# Altium integrated library Texas Instruments Power Management PWM Controller.IntLib: 1227 symbols (part 26 of 49)
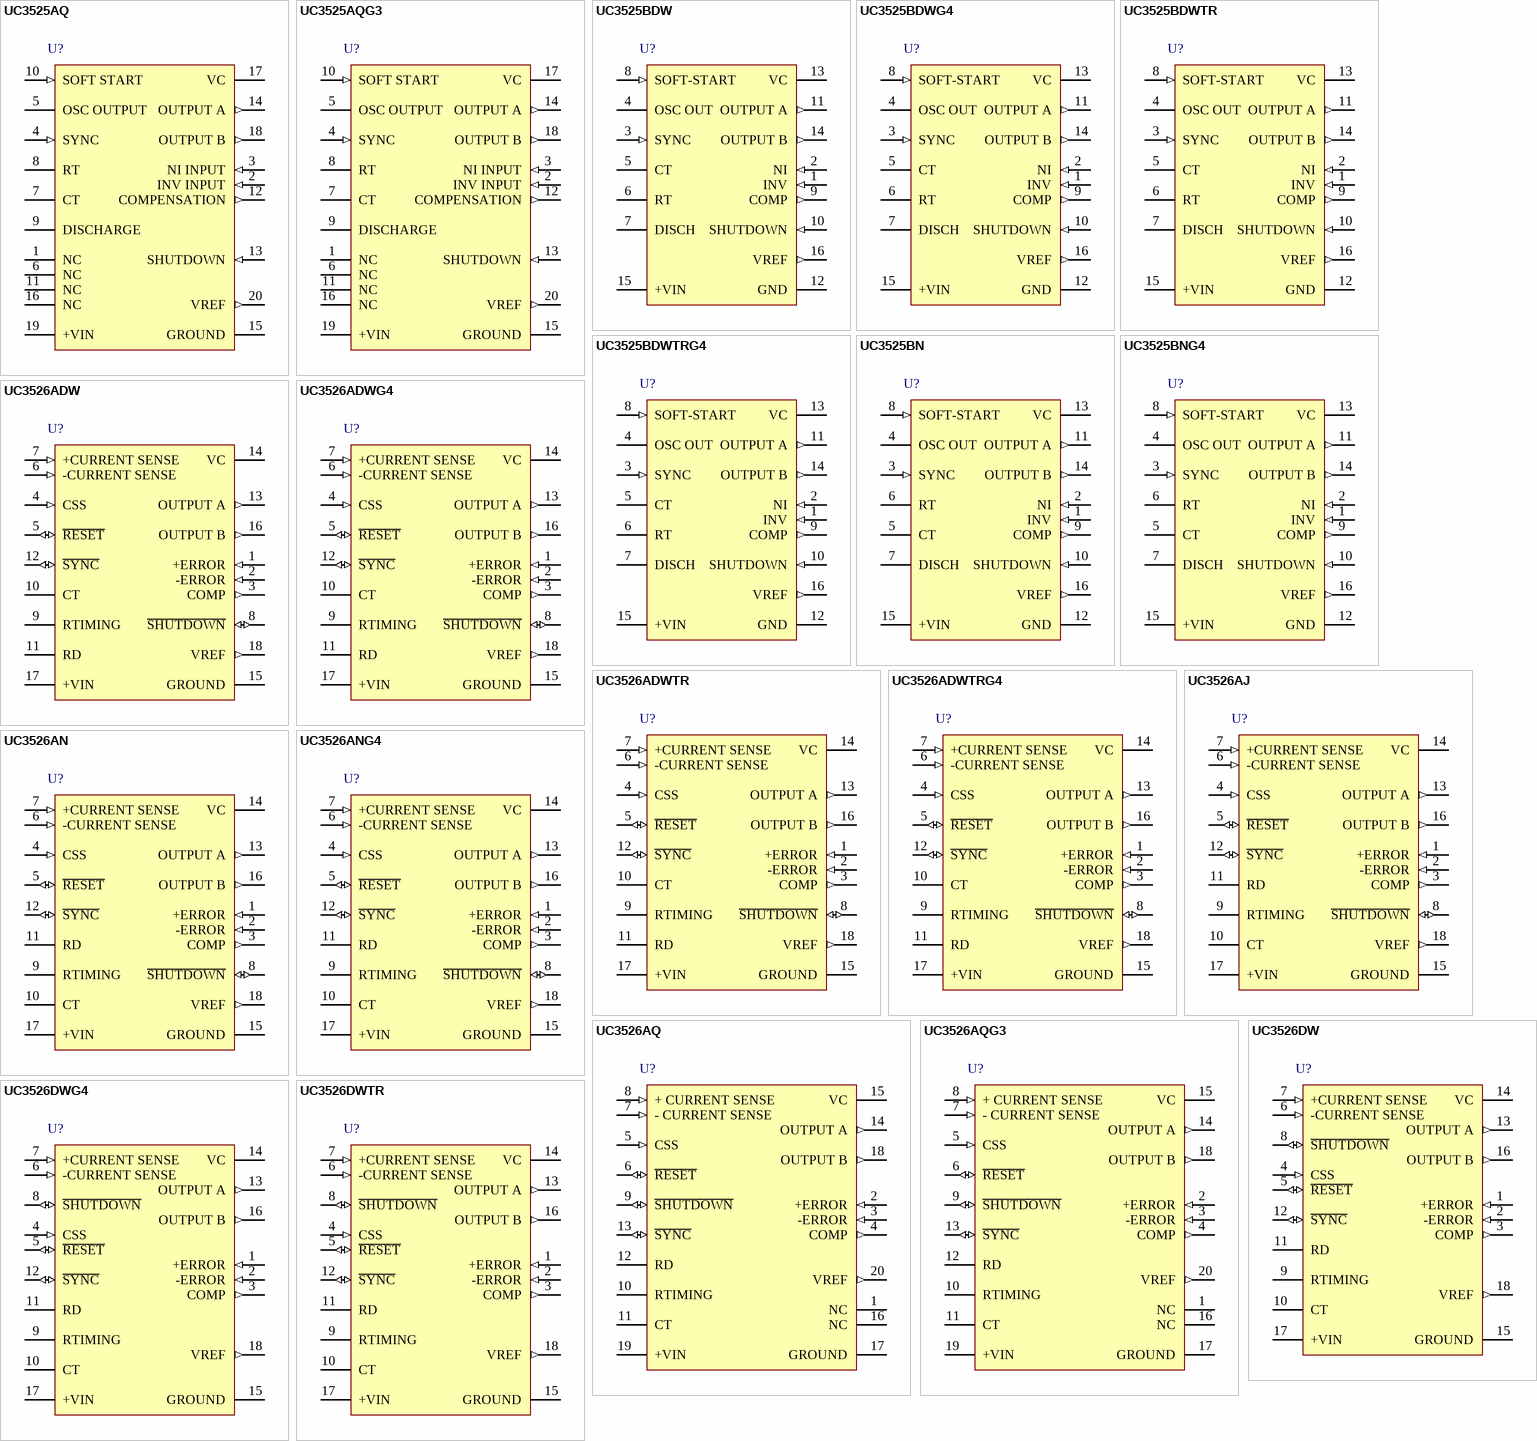
[diagram p68: symbols UC3525AQ to UC3526DWTR]

## UC3526DWTR
designator U?
Regulating Pulse Width Modulator with Voltage Control, 50 % Duty Cycle, 0 to +70 degC, 18-pin SOIC (DW), Green (RoHS & no Sb/Br); PartNumber: UC3526DWTR; Manufacturer: Texas Instruments; Duty Cycle(Max)(%): 50; Frequency(Max)(kHz): 450; Rating: Catalog; Regulated Outputs(#): 2; SubFamily: PWM Controller; Topology: Boost, Flyback, Forward, Full-Bridge, Half-Bridge, Push-Pull; DatasheetVersion: SLUS185; PackageVersion: revG, Jan-2011; PackageReference: DW18; PackageDescription: 18-Pin Plastic Small Outline Integrated Circuit, 11.6 x 7.5 mm, Pitch 1.27 mm Pitch; Supplier 1: Digi-Key; Supplier Part Number 1: UC3526DWTR-ND; Supplier 2: Newark; Supplier Part Number 2: 77C3138; Supplier 3: Mouser; Supplier Part Number 3: 595-UC3526DWTR; Control Method: Voltage; Eco-Plan: Green (RoHS & no Sb/Br); UVLO Thresholds On/Off(V): 7/6.8; Mounting Technology: Surface Mount; Code_JEDEC: MS-013-AB; ComponentLink1Description: Datasheet; ComponentLink1URL: http://www.ti.com/general/docs/lit/getliterature.tsp?genericPartNumber=UC3526&fileType=pdf
footprint DW18_N (SOIC, 18-Leads, Body 11.6x7.5mm, Pitch 1.27mm, IPC Medium Density)
footprint DW18_L (SOIC, 18-Leads, Body 11.6x7.5mm, Pitch 1.27mm, IPC High Density)
footprint DW18_M (SOIC, 18-Leads, Body 11.6x7.5mm, Pitch 1.27mm, IPC Low Density)
pins: 1 +ERROR (in), 2 -ERROR (in), 3 COMP (out), 4 CSS (in), 5 ~{RESET} (io), 6 -CURRENT SENSE (in), 7 +CURRENT SENSE (in), 8 ~{SHUTDOWN} (io), 9 RTIMING, 10 CT, 11 RD, 12 ~{SYNC} (io), 13 OUTPUT A (out), 14 VC (power), 15 GROUND (power), 16 OUTPUT B (out), 17 +VIN (power), 18 VREF (out)

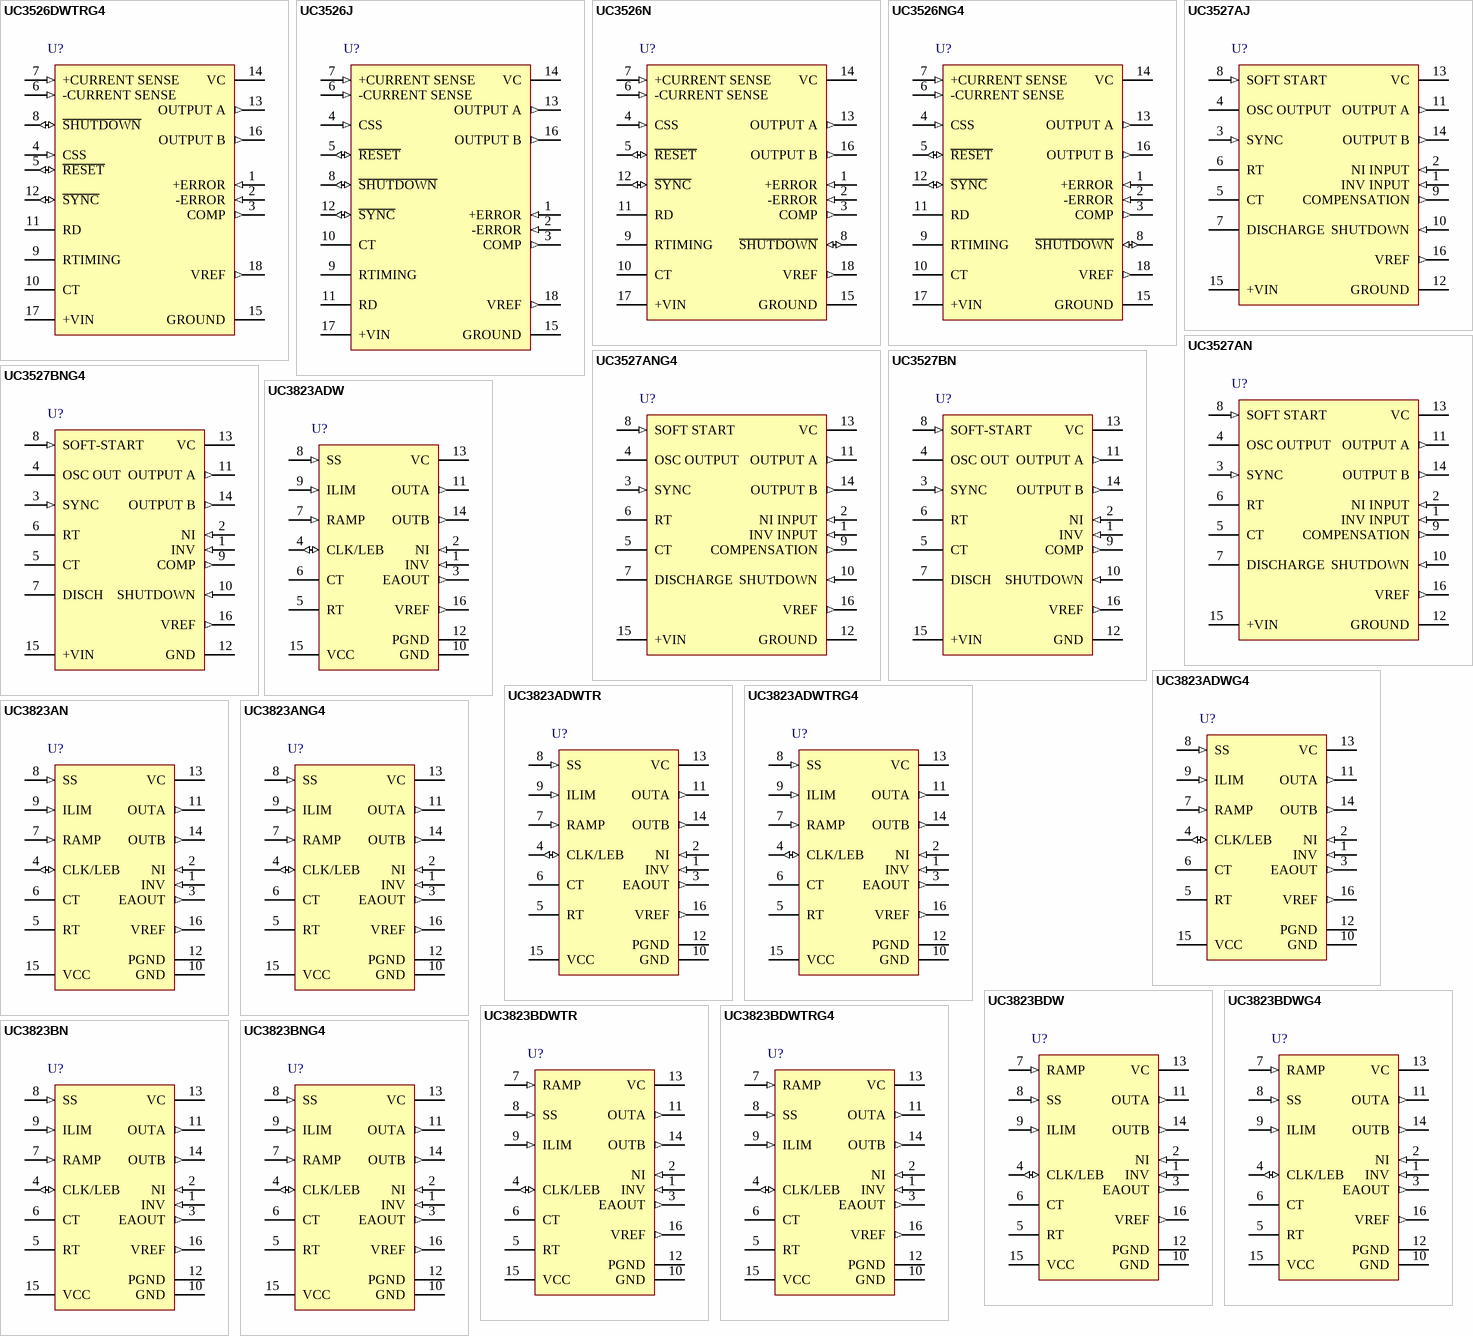
[diagram p28: symbols UC3526DWTRG4 to UC3823BNG4]

## UC3526DWTRG4
designator U?
Regulating Pulse Width Modulator with Voltage Control, 50 % Duty Cycle, 0 to +70 degC, 18-pin SOIC (DW), Green (RoHS & no Sb/Br); PartNumber: UC3526DWTRG4; Manufacturer: Texas Instruments; Duty Cycle(Max)(%): 50; Frequency(Max)(kHz): 450; Rating: Catalog; Regulated Outputs(#): 2; SubFamily: PWM Controller; Topology: Boost, Flyback, Forward, Full-Bridge, Half-Bridge, Push-Pull; DatasheetVersion: SLUS185; PackageVersion: revG, Jan-2011; PackageReference: DW18; PackageDescription: 18-Pin Plastic Small Outline Integrated Circuit, 11.6 x 7.5 mm, Pitch 1.27 mm Pitch; Supplier 1: Digi-Key; Supplier Part Number 1: UC3526DWTRG4-ND; Supplier 2: Newark; Supplier Part Number 2: 63K6714; Supplier 3: Mouser; Supplier Part Number 3: 595-UC3526DWTRG4; Control Method: Voltage; Eco-Plan: Green (RoHS & no Sb/Br); UVLO Thresholds On/Off(V): 7/6.8; Mounting Technology: Surface Mount; Code_JEDEC: MS-013-AB; ComponentLink1Description: Datasheet; ComponentLink1URL: http://www.ti.com/general/docs/lit/getliterature.tsp?genericPartNumber=UC3526&fileType=pdf
footprint DW18_N (SOIC, 18-Leads, Body 11.6x7.5mm, Pitch 1.27mm, IPC Medium Density)
footprint DW18_L (SOIC, 18-Leads, Body 11.6x7.5mm, Pitch 1.27mm, IPC High Density)
footprint DW18_M (SOIC, 18-Leads, Body 11.6x7.5mm, Pitch 1.27mm, IPC Low Density)
pins: 1 +ERROR (in), 2 -ERROR (in), 3 COMP (out), 4 CSS (in), 5 ~{RESET} (io), 6 -CURRENT SENSE (in), 7 +CURRENT SENSE (in), 8 ~{SHUTDOWN} (io), 9 RTIMING, 10 CT, 11 RD, 12 ~{SYNC} (io), 13 OUTPUT A (out), 14 VC (power), 15 GROUND (power), 16 OUTPUT B (out), 17 +VIN (power), 18 VREF (out)

## UC3526J
designator U?
Regulating Pulse Width Modulator with Voltage Control, 50 % Duty Cycle, 0 to +70 degC, 18-pin CDIP (J); PartNumber: UC3526J; Manufacturer: Texas Instruments; Duty Cycle(Max)(%): 50; Eco-Plan: TBD; Frequency(Max)(kHz): 450; Rating: Military; Regulated Outputs(#): 2; SubFamily: PWM Controller; Topology: Boost, Buck, Flyback, Forward, Full-Bridge, Half-Bridge, Push-Pull; DatasheetVersion: SLUS187; PackageVersion: revF, Mar-2003; PackageReference: J18; PackageDescription: 18-Pin, Ceramic Dual In-Line Package, Row Spacing 7.62 mm, Pitch 2.54 mm; Control Method: Voltage; UVLO Thresholds On/Off(V): 7/6.8; Mounting Technology: Through Hole; ComponentLink1Description: Datasheet; ComponentLink1URL: http://www.ti.com/general/docs/lit/getliterature.tsp?genericPartNumber=UC3526M&fileType=pdf
footprint J18 (DIP, 18-Leads, Row Spacing 7.62mm, Pitch 2.54mm, Body 24.1x6.7mm)
pins: 1 +ERROR (in), 2 -ERROR (in), 3 COMP (out), 4 CSS (in), 5 ~{RESET} (io), 6 -CURRENT SENSE (in), 7 +CURRENT SENSE (in), 8 ~{SHUTDOWN} (io), 9 RTIMING, 10 CT, 11 RD, 12 ~{SYNC} (io), 13 OUTPUT A (out), 14 VC (power), 15 GROUND (power), 16 OUTPUT B (out), 17 +VIN (power), 18 VREF (out)

## UC3526N
designator U?
Regulating Pulse Width Modulator with Voltage Control, 50 % Duty Cycle, 0 to +70 degC, 18-pin PDIP (N), Green (RoHS & no Sb/Br); PartNumber: UC3526N; Manufacturer: Texas Instruments; Duty Cycle(Max)(%): 50; Frequency(Max)(kHz): 450; Rating: Catalog; Regulated Outputs(#): 2; SubFamily: PWM Controller; Topology: Boost, Flyback, Forward, Full-Bridge, Half-Bridge, Push-Pull; DatasheetVersion: SLUS185; PackageVersion: revE, Dec-2002; PackageReference: N18; PackageDescription: 18-Pin Plastic Dual-In-Line Package, Row Spacing 7.62 mm, Pitch 2.54 mm; Supplier 1: Digi-Key; Supplier Part Number 1: 296-11222-5-ND; Supplier 2: Newark; Supplier Part Number 2: 77C3139; Supplier 3: Mouser; Supplier Part Number 3: 595-UC3526N; Control Method: Voltage; Eco-Plan: Green (RoHS & no Sb/Br); UVLO Thresholds On/Off(V): 7/6.8; Mounting Technology: Through Hole; Code_JEDEC: MS-001-AC*; ComponentLink1Description: Datasheet; ComponentLink1URL: http://www.ti.com/general/docs/lit/getliterature.tsp?genericPartNumber=UC3526&fileType=pdf
footprint N18 (DIP, 18-Leads, Row Spacing 7.62mm, Pitch 2.54mm, Body 22.5x6.4mm)
pins: 1 +ERROR (in), 2 -ERROR (in), 3 COMP (out), 4 CSS (in), 5 ~{RESET} (io), 6 -CURRENT SENSE (in), 7 +CURRENT SENSE (in), 8 ~{SHUTDOWN} (io), 9 RTIMING, 10 CT, 11 RD, 12 ~{SYNC} (io), 13 OUTPUT A (out), 14 VC (power), 15 GROUND (power), 16 OUTPUT B (out), 17 +VIN (power), 18 VREF (out)

## UC3526NG4
designator U?
Regulating Pulse Width Modulator with Voltage Control, 50 % Duty Cycle, 0 to +70 degC, 18-pin PDIP (N), Green (RoHS & no Sb/Br); PartNumber: UC3526NG4; Manufacturer: Texas Instruments; Duty Cycle(Max)(%): 50; Frequency(Max)(kHz): 450; Rating: Catalog; Regulated Outputs(#): 2; SubFamily: PWM Controller; Topology: Boost, Flyback, Forward, Full-Bridge, Half-Bridge, Push-Pull; DatasheetVersion: SLUS185; PackageVersion: revE, Dec-2002; PackageReference: N18; PackageDescription: 18-Pin Plastic Dual-In-Line Package, Row Spacing 7.62 mm, Pitch 2.54 mm; Supplier 1: Digi-Key; Supplier Part Number 1: UC3526NG4-ND; Supplier 2: Farnell; Supplier Part Number 2: 1207378; Supplier 3: Newark; Supplier Part Number 3: 24M8887; Supplier 4: Newark; Supplier Part Number 4: 54K2303; Supplier 5: Mouser; Supplier Part Number 5: 595-UC3526NG4; Control Method: Voltage; Eco-Plan: Green (RoHS & no Sb/Br); UVLO Thresholds On/Off(V): 7/6.8; Mounting Technology: Through Hole; Code_JEDEC: MS-001-AC*; ComponentLink1Description: Datasheet; ComponentLink1URL: http://www.ti.com/general/docs/lit/getliterature.tsp?genericPartNumber=UC3526&fileType=pdf
footprint N18 (DIP, 18-Leads, Row Spacing 7.62mm, Pitch 2.54mm, Body 22.5x6.4mm)
pins: 1 +ERROR (in), 2 -ERROR (in), 3 COMP (out), 4 CSS (in), 5 ~{RESET} (io), 6 -CURRENT SENSE (in), 7 +CURRENT SENSE (in), 8 ~{SHUTDOWN} (io), 9 RTIMING, 10 CT, 11 RD, 12 ~{SYNC} (io), 13 OUTPUT A (out), 14 VC (power), 15 GROUND (power), 16 OUTPUT B (out), 17 +VIN (power), 18 VREF (out)

## UC3527AJ
designator U?
Regulating Pulse Width Modulator with Voltage Control, 50 % Duty Cycle, 0 to +70 degC, 16-pin CDIP (J); PartNumber: UC3527AJ; Manufacturer: Texas Instruments; Duty Cycle(Max)(%): 50; Eco-Plan: TBD; Frequency(Max)(kHz): 450; Rating: Military; Regulated Outputs(#): 2; SubFamily: PWM Controller; Topology: Boost, Flyback, Forward, Full-Bridge, Half-Bridge, Push-Pull; DatasheetVersion: SLUS191C; PackageVersion: revF, Mar-2003; PackageReference: J16; PackageDescription: 16-Pin, Ceramic Dual In-Line Package, Row Spacing 7.62 mm, Pitch 2.54 mm; Control Method: Voltage; UVLO Thresholds On/Off(V): 7/6.8; Mounting Technology: Through Hole; ComponentLink1Description: Datasheet; ComponentLink1URL: http://www.ti.com/general/docs/lit/getliterature.tsp?genericPartNumber=UC3527AM&fileType=pdf
footprint J16 (DIP, 16-Leads, Row Spacing 7.62mm, Pitch 2.54mm, Body 21.3x6.9mm)
pins: 1 INV INPUT (in), 2 NI INPUT (in), 3 SYNC (in), 4 OSC OUTPUT, 5 CT, 6 RT, 7 DISCHARGE (oc), 8 SOFT START (in), 9 COMPENSATION (out), 10 SHUTDOWN (in), 11 OUTPUT A (out), 12 GROUND (power), 13 VC (power), 14 OUTPUT B (out), 15 +VIN (power), 16 VREF (out)

## UC3527AN
designator U?
Regulating Pulse Width Modulator with Voltage Control, 50 % Duty Cycle, 0 to +70 degC, 16-pin PDIP (N), Green (RoHS & no Sb/Br); PartNumber: UC3527AN; Manufacturer: Texas Instruments; Duty Cycle(Max)(%): 50; Frequency(Max)(kHz): 450; Rating: Catalog; Regulated Outputs(#): 2; SubFamily: PWM Controller; Topology: Boost, Flyback, Forward, Full-Bridge, Half-Bridge, Push-Pull; DatasheetVersion: SLUS191C; PackageVersion: revE, Dec-2002; PackageReference: N16; PackageDescription: 16-Pin Plastic Dual-In-Line Package, Row Spacing 7.62 mm, Pitch 2.54 mm; Supplier 1: Digi-Key; Supplier Part Number 1: 296-11223-5-ND; Supplier 2: Newark; Supplier Part Number 2: 77C3140; Supplier 3: Mouser; Supplier Part Number 3: 595-UC3527AN; Control Method: Voltage; Eco-Plan: Green (RoHS & no Sb/Br); UVLO Thresholds On/Off(V): 7/6.8; Mounting Technology: Through Hole; Code_JEDEC: MS-001*; ComponentLink1Description: Datasheet; ComponentLink1URL: http://www.ti.com/general/docs/lit/getliterature.tsp?genericPartNumber=UC3527A&fileType=pdf
footprint N16 (DIP, 16-Leads, Row Spacing 7.62mm, Pitch 2.54mm, Body 19.3x6.4mm)
pins: 1 INV INPUT (in), 2 NI INPUT (in), 3 SYNC (in), 4 OSC OUTPUT, 5 CT, 6 RT, 7 DISCHARGE (oc), 8 SOFT START (in), 9 COMPENSATION (out), 10 SHUTDOWN (in), 11 OUTPUT A (out), 12 GROUND (power), 13 VC (power), 14 OUTPUT B (out), 15 +VIN (power), 16 VREF (out)

## UC3527ANG4
designator U?
Regulating Pulse Width Modulator with Voltage Control, 50 % Duty Cycle, 0 to +70 degC, 16-pin PDIP (N), Green (RoHS & no Sb/Br); PartNumber: UC3527ANG4; Manufacturer: Texas Instruments; Duty Cycle(Max)(%): 50; Frequency(Max)(kHz): 450; Rating: Catalog; Regulated Outputs(#): 2; SubFamily: PWM Controller; Topology: Boost, Flyback, Forward, Full-Bridge, Half-Bridge, Push-Pull; DatasheetVersion: SLUS191C; PackageVersion: revE, Dec-2002; PackageReference: N16; PackageDescription: 16-Pin Plastic Dual-In-Line Package, Row Spacing 7.62 mm, Pitch 2.54 mm; Supplier 1: Digi-Key; Supplier Part Number 1: UC3527ANG4-ND; Supplier 2: Newark; Supplier Part Number 2: 58K7117; Supplier 3: Mouser; Supplier Part Number 3: 595-UC3527ANG4; Control Method: Voltage; Eco-Plan: Green (RoHS & no Sb/Br); UVLO Thresholds On/Off(V): 7/6.8; Mounting Technology: Through Hole; Code_JEDEC: MS-001*; ComponentLink1Description: Datasheet; ComponentLink1URL: http://www.ti.com/general/docs/lit/getliterature.tsp?genericPartNumber=UC3527A&fileType=pdf
footprint N16 (DIP, 16-Leads, Row Spacing 7.62mm, Pitch 2.54mm, Body 19.3x6.4mm)
pins: 1 INV INPUT (in), 2 NI INPUT (in), 3 SYNC (in), 4 OSC OUTPUT, 5 CT, 6 RT, 7 DISCHARGE (oc), 8 SOFT START (in), 9 COMPENSATION (out), 10 SHUTDOWN (in), 11 OUTPUT A (out), 12 GROUND (power), 13 VC (power), 14 OUTPUT B (out), 15 +VIN (power), 16 VREF (out)

## UC3527BN
designator U?
Regulating Pulse Width Modulator with Voltage Control, 50 % Duty Cycle, 0 to +70 degC, 16-pin PDIP (N), Green (RoHS & no Sb/Br); PartNumber: UC3527BN; Manufacturer: Texas Instruments; Duty Cycle(Max)(%): 50; Frequency(Max)(kHz): 450; Rating: Catalog; Regulated Outputs(#): 2; SubFamily: PWM Controller; Topology: Boost, Flyback, Forward, Full-Bridge, Half-Bridge, Push-Pull; DatasheetVersion: SLUS376; PackageVersion: revE, Dec-2002; PackageReference: N16; PackageDescription: 16-Pin Plastic Dual-In-Line Package, Row Spacing 7.62 mm, Pitch 2.54 mm; Supplier 1: Digi-Key; Supplier Part Number 1: 296-2504-5-ND; Supplier 2: Newark; Supplier Part Number 2: 77C3141; Supplier 3: Mouser; Supplier Part Number 3: 595-UC3527BN; Control Method: Voltage; Eco-Plan: Green (RoHS & no Sb/Br); UVLO Thresholds On/Off(V): 7/6.8; Mounting Technology: Through Hole; Code_JEDEC: MS-001*; ComponentLink1Description: Datasheet; ComponentLink1URL: http://www.ti.com/general/docs/lit/getliterature.tsp?genericPartNumber=UC3527B&fileType=pdf
footprint N16 (DIP, 16-Leads, Row Spacing 7.62mm, Pitch 2.54mm, Body 19.3x6.4mm)
pins: 1 INV (in), 2 NI (in), 3 SYNC (in), 4 OSC OUT, 5 CT, 6 RT, 7 DISCH (oc), 8 SOFT-START (in), 9 COMP (out), 10 SHUTDOWN (in), 11 OUTPUT A (out), 12 GND (power), 13 VC (power), 14 OUTPUT B (out), 15 +VIN (power), 16 VREF (out)

## UC3527BNG4
designator U?
Regulating Pulse Width Modulator with Voltage Control, 50 % Duty Cycle, 0 to +70 degC, 16-pin PDIP (N), Green (RoHS & no Sb/Br); PartNumber: UC3527BNG4; Manufacturer: Texas Instruments; Duty Cycle(Max)(%): 50; Frequency(Max)(kHz): 450; Rating: Catalog; Regulated Outputs(#): 2; SubFamily: PWM Controller; Topology: Boost, Flyback, Forward, Full-Bridge, Half-Bridge, Push-Pull; DatasheetVersion: SLUS376; PackageVersion: revE, Dec-2002; PackageReference: N16; PackageDescription: 16-Pin Plastic Dual-In-Line Package, Row Spacing 7.62 mm, Pitch 2.54 mm; Supplier 1: Digi-Key; Supplier Part Number 1: UC3527BNG4-ND; Supplier 2: Newark; Supplier Part Number 2: 54K2304; Supplier 3: Mouser; Supplier Part Number 3: 595-UC3527BNG4; Control Method: Voltage; Eco-Plan: Green (RoHS & no Sb/Br); UVLO Thresholds On/Off(V): 7/6.8; Mounting Technology: Through Hole; Code_JEDEC: MS-001*; ComponentLink1Description: Datasheet; ComponentLink1URL: http://www.ti.com/general/docs/lit/getliterature.tsp?genericPartNumber=UC3527B&fileType=pdf
footprint N16 (DIP, 16-Leads, Row Spacing 7.62mm, Pitch 2.54mm, Body 19.3x6.4mm)
pins: 1 INV (in), 2 NI (in), 3 SYNC (in), 4 OSC OUT, 5 CT, 6 RT, 7 DISCH (oc), 8 SOFT-START (in), 9 COMP (out), 10 SHUTDOWN (in), 11 OUTPUT A (out), 12 GND (power), 13 VC (power), 14 OUTPUT B (out), 15 +VIN (power), 16 VREF (out)

## UC3823ADW
designator U?
High Speed PWM Controller with Current, Voltage Control, 100 % Duty Cycle, 0 to +70 degC, 16-pin SOIC (DW), Green (RoHS & no Sb/Br); PartNumber: UC3823ADW; Manufacturer: Texas Instruments; Duty Cycle(Max)(%): 100; Frequency(Max)(kHz): 1000; Rating: Catalog; Regulated Outputs(#): 1; Topology: Boost, Buck, Flyback, Forward; UVLO Thresholds On/Off(V): 16/10; DatasheetVersion: SLUS334E; PackageVersion: revG, Jan-2011; PackageReference: DW16; PackageDescription: 16-Pin Small Outline Integrated Circuit, 10.3 x 7.5 mm, Pitch 1.27 mm Pitch; Supplier 1: Digi-Key; Supplier Part Number 1: 296-2515-5-ND; Supplier 2: Farnell; Supplier Part Number 2: 1461259; Supplier 3: Newark; Supplier Part Number 3: 77C3232; Supplier 4: Mouser; Supplier Part Number 4: 595-UC3823ADW; Control Method: Current, Voltage; Eco-Plan: Green (RoHS & no Sb/Br); SubFamily: PWM Controller; Mounting Technology: Surface Mount; Code_JEDEC: MS-013-AA; ComponentLink1Description: Datasheet; ComponentLink1URL: http://www.ti.com/general/docs/lit/getliterature.tsp?genericPartNumber=UC3823A&fileType=pdf
footprint DW16_N (SOIC, 16-Leads, Body 10.3x7.5mm, Pitch 1.27mm, IPC Medium Density)
footprint DW16_L (SOIC, 16-Leads, Body 10.3x7.5mm, Pitch 1.27mm, IPC High Density)
footprint DW16_M (SOIC, 16-Leads, Body 10.3x7.5mm, Pitch 1.27mm, IPC Low Density)
pins: 1 INV (in) "Inverting input to the error amplifier", 2 NI (in) "Non-inverting input to the error amplifier", 3 EAOUT (out) "Output of the error amplifier for compensation", 4 CLK/LEB (io) "Output of the internal oscillator", 5 RT "Timing resistor connection pin for oscillator frequency programming", 6 CT "Timing capacitor connection pin for oscillator frequency programming. The timing capacitor should be connected to the device ground using minimal trace length.", 7 RAMP (in) "Non-inverting input to the PWM comparator with 1.25-V internal input offset. In voltage mode operation, this serves as the input voltage feed-forward function by using the CT ramp. In peak current mode operation, this serves (See Datasheet)", 8 SS (in) "Soft-start input pin which also doubles as the maximum duty cycle clamp.", 9 ILIM (in) "Input to the current limit comparator", 10 GND (power) "Analog ground return pin", 11 OUTA (out) "High current totem pole output A of the on-chip drive stage.", 12 PGND (power) "Ground return pin for the output driver stage", 13 VC (power) "Power supply pin for the output stage. This pin should be bypassed with a 0.1-uF monolithic ceramic low ESL capacitor with minimal trace lengths.", 14 OUTB (out) "High current totem pole output B of the on-chip drive stage.", 15 VCC (power) "Power supply pin for the device. This pin should be bypassed with a 0.1-uF monolithic ceramic low ESL capacitor with minimal trace lengths", 16 VREF (out) "5.1-V reference. For stability, the reference should be bypassed with a 0.1-uF monolithic ceramic low ESL capacitor and minimal trace length to the ground plane."

## UC3823ADWG4
designator U?
High Speed PWM Controller with Current, Voltage Control, 100 % Duty Cycle, 0 to +70 degC, 16-pin SOIC (DW), Green (RoHS & no Sb/Br); PartNumber: UC3823ADWG4; Manufacturer: Texas Instruments; Duty Cycle(Max)(%): 100; Frequency(Max)(kHz): 1000; Rating: Catalog; Regulated Outputs(#): 1; Topology: Boost, Buck, Flyback, Forward; UVLO Thresholds On/Off(V): 16/10; DatasheetVersion: SLUS334E; PackageVersion: revG, Jan-2011; PackageReference: DW16; PackageDescription: 16-Pin Small Outline Integrated Circuit, 10.3 x 7.5 mm, Pitch 1.27 mm Pitch; Supplier 1: Digi-Key; Supplier Part Number 1: UC3823ADWG4-ND; Supplier 2: Newark; Supplier Part Number 2: 63K6728; Supplier 3: Mouser; Supplier Part Number 3: 595-UC3823ADWG4; Control Method: Current, Voltage; Eco-Plan: Green (RoHS & no Sb/Br); SubFamily: PWM Controller; Mounting Technology: Surface Mount; Code_JEDEC: MS-013-AA; ComponentLink1Description: Datasheet; ComponentLink1URL: http://www.ti.com/general/docs/lit/getliterature.tsp?genericPartNumber=UC3823A&fileType=pdf
footprint DW16_N (SOIC, 16-Leads, Body 10.3x7.5mm, Pitch 1.27mm, IPC Medium Density)
footprint DW16_L (SOIC, 16-Leads, Body 10.3x7.5mm, Pitch 1.27mm, IPC High Density)
footprint DW16_M (SOIC, 16-Leads, Body 10.3x7.5mm, Pitch 1.27mm, IPC Low Density)
pins: 1 INV (in) "Inverting input to the error amplifier", 2 NI (in) "Non-inverting input to the error amplifier", 3 EAOUT (out) "Output of the error amplifier for compensation", 4 CLK/LEB (io) "Output of the internal oscillator", 5 RT "Timing resistor connection pin for oscillator frequency programming", 6 CT "Timing capacitor connection pin for oscillator frequency programming. The timing capacitor should be connected to the device ground using minimal trace length.", 7 RAMP (in) "Non-inverting input to the PWM comparator with 1.25-V internal input offset. In voltage mode operation, this serves as the input voltage feed-forward function by using the CT ramp. In peak current mode operation, this serves (See Datasheet)", 8 SS (in) "Soft-start input pin which also doubles as the maximum duty cycle clamp.", 9 ILIM (in) "Input to the current limit comparator", 10 GND (power) "Analog ground return pin", 11 OUTA (out) "High current totem pole output A of the on-chip drive stage.", 12 PGND (power) "Ground return pin for the output driver stage", 13 VC (power) "Power supply pin for the output stage. This pin should be bypassed with a 0.1-uF monolithic ceramic low ESL capacitor with minimal trace lengths.", 14 OUTB (out) "High current totem pole output B of the on-chip drive stage.", 15 VCC (power) "Power supply pin for the device. This pin should be bypassed with a 0.1-uF monolithic ceramic low ESL capacitor with minimal trace lengths", 16 VREF (out) "5.1-V reference. For stability, the reference should be bypassed with a 0.1-uF monolithic ceramic low ESL capacitor and minimal trace length to the ground plane."

## UC3823ADWTR
designator U?
High Speed PWM Controller with Current, Voltage Control, 100 % Duty Cycle, 0 to +70 degC, 16-pin SOIC (DW), Green (RoHS & no Sb/Br); PartNumber: UC3823ADWTR; Manufacturer: Texas Instruments; Duty Cycle(Max)(%): 100; Frequency(Max)(kHz): 1000; Rating: Catalog; Regulated Outputs(#): 1; Topology: Boost, Buck, Flyback, Forward; UVLO Thresholds On/Off(V): 16/10; DatasheetVersion: SLUS334E; PackageVersion: revG, Jan-2011; PackageReference: DW16; PackageDescription: 16-Pin Small Outline Integrated Circuit, 10.3 x 7.5 mm, Pitch 1.27 mm Pitch; Supplier 1: Digi-Key; Supplier Part Number 1: UC3823ADWTR-ND; Supplier 2: Newark; Supplier Part Number 2: 77C3233; Supplier 3: Mouser; Supplier Part Number 3: 595-UC3823ADWTR; Control Method: Current, Voltage; Eco-Plan: Green (RoHS & no Sb/Br); SubFamily: PWM Controller; Mounting Technology: Surface Mount; Code_JEDEC: MS-013-AA; ComponentLink1Description: Datasheet; ComponentLink1URL: http://www.ti.com/general/docs/lit/getliterature.tsp?genericPartNumber=UC3823A&fileType=pdf
footprint DW16_N (SOIC, 16-Leads, Body 10.3x7.5mm, Pitch 1.27mm, IPC Medium Density)
footprint DW16_L (SOIC, 16-Leads, Body 10.3x7.5mm, Pitch 1.27mm, IPC High Density)
footprint DW16_M (SOIC, 16-Leads, Body 10.3x7.5mm, Pitch 1.27mm, IPC Low Density)
pins: 1 INV (in) "Inverting input to the error amplifier", 2 NI (in) "Non-inverting input to the error amplifier", 3 EAOUT (out) "Output of the error amplifier for compensation", 4 CLK/LEB (io) "Output of the internal oscillator", 5 RT "Timing resistor connection pin for oscillator frequency programming", 6 CT "Timing capacitor connection pin for oscillator frequency programming. The timing capacitor should be connected to the device ground using minimal trace length.", 7 RAMP (in) "Non-inverting input to the PWM comparator with 1.25-V internal input offset. In voltage mode operation, this serves as the input voltage feed-forward function by using the CT ramp. In peak current mode operation, this serves (See Datasheet)", 8 SS (in) "Soft-start input pin which also doubles as the maximum duty cycle clamp.", 9 ILIM (in) "Input to the current limit comparator", 10 GND (power) "Analog ground return pin", 11 OUTA (out) "High current totem pole output A of the on-chip drive stage.", 12 PGND (power) "Ground return pin for the output driver stage", 13 VC (power) "Power supply pin for the output stage. This pin should be bypassed with a 0.1-uF monolithic ceramic low ESL capacitor with minimal trace lengths.", 14 OUTB (out) "High current totem pole output B of the on-chip drive stage.", 15 VCC (power) "Power supply pin for the device. This pin should be bypassed with a 0.1-uF monolithic ceramic low ESL capacitor with minimal trace lengths", 16 VREF (out) "5.1-V reference. For stability, the reference should be bypassed with a 0.1-uF monolithic ceramic low ESL capacitor and minimal trace length to the ground plane."

## UC3823ADWTRG4
designator U?
High Speed PWM Controller with Current, Voltage Control, 100 % Duty Cycle, 0 to +70 degC, 16-pin SOIC (DW), Green (RoHS & no Sb/Br); PartNumber: UC3823ADWTRG4; Manufacturer: Texas Instruments; Duty Cycle(Max)(%): 100; Frequency(Max)(kHz): 1000; Rating: Catalog; Regulated Outputs(#): 1; Topology: Boost, Buck, Flyback, Forward; UVLO Thresholds On/Off(V): 16/10; DatasheetVersion: SLUS334E; PackageVersion: revG, Jan-2011; PackageReference: DW16; PackageDescription: 16-Pin Small Outline Integrated Circuit, 10.3 x 7.5 mm, Pitch 1.27 mm Pitch; Supplier 1: Digi-Key; Supplier Part Number 1: UC3823ADWTRG4-ND; Supplier 2: Newark; Supplier Part Number 2: 63K6729; Supplier 3: Mouser; Supplier Part Number 3: 595-UC3823ADWTRG4; Control Method: Current, Voltage; Eco-Plan: Green (RoHS & no Sb/Br); SubFamily: PWM Controller; Mounting Technology: Surface Mount; Code_JEDEC: MS-013-AA; ComponentLink1Description: Datasheet; ComponentLink1URL: http://www.ti.com/general/docs/lit/getliterature.tsp?genericPartNumber=UC3823A&fileType=pdf
footprint DW16_N (SOIC, 16-Leads, Body 10.3x7.5mm, Pitch 1.27mm, IPC Medium Density)
footprint DW16_L (SOIC, 16-Leads, Body 10.3x7.5mm, Pitch 1.27mm, IPC High Density)
footprint DW16_M (SOIC, 16-Leads, Body 10.3x7.5mm, Pitch 1.27mm, IPC Low Density)
pins: 1 INV (in) "Inverting input to the error amplifier", 2 NI (in) "Non-inverting input to the error amplifier", 3 EAOUT (out) "Output of the error amplifier for compensation", 4 CLK/LEB (io) "Output of the internal oscillator", 5 RT "Timing resistor connection pin for oscillator frequency programming", 6 CT "Timing capacitor connection pin for oscillator frequency programming. The timing capacitor should be connected to the device ground using minimal trace length.", 7 RAMP (in) "Non-inverting input to the PWM comparator with 1.25-V internal input offset. In voltage mode operation, this serves as the input voltage feed-forward function by using the CT ramp. In peak current mode operation, this serves (See Datasheet)", 8 SS (in) "Soft-start input pin which also doubles as the maximum duty cycle clamp.", 9 ILIM (in) "Input to the current limit comparator", 10 GND (power) "Analog ground return pin", 11 OUTA (out) "High current totem pole output A of the on-chip drive stage.", 12 PGND (power) "Ground return pin for the output driver stage", 13 VC (power) "Power supply pin for the output stage. This pin should be bypassed with a 0.1-uF monolithic ceramic low ESL capacitor with minimal trace lengths.", 14 OUTB (out) "High current totem pole output B of the on-chip drive stage.", 15 VCC (power) "Power supply pin for the device. This pin should be bypassed with a 0.1-uF monolithic ceramic low ESL capacitor with minimal trace lengths", 16 VREF (out) "5.1-V reference. For stability, the reference should be bypassed with a 0.1-uF monolithic ceramic low ESL capacitor and minimal trace length to the ground plane."

## UC3823AN
designator U?
High Speed PWM Controller with Current, Voltage Control, 100 % Duty Cycle, 0 to +70 degC, 16-pin PDIP (N), Green (RoHS & no Sb/Br); PartNumber: UC3823AN; Manufacturer: Texas Instruments; Duty Cycle(Max)(%): 100; Frequency(Max)(kHz): 1000; Rating: Catalog; Regulated Outputs(#): 1; Topology: Boost, Buck, Flyback, Forward; UVLO Thresholds On/Off(V): 16/10; DatasheetVersion: SLUS334E; PackageVersion: revE, Dec-2002; PackageReference: N16; PackageDescription: 16-Pin Plastic Dual-In-Line Package, Row Spacing 7.62 mm, Pitch 2.54 mm; Supplier 1: Digi-Key; Supplier Part Number 1: 296-11261-5-ND; Supplier 2: Newark; Supplier Part Number 2: 77C3234; Supplier 3: Mouser; Supplier Part Number 3: 595-UC3823AN; Control Method: Current, Voltage; Eco-Plan: Green (RoHS & no Sb/Br); SubFamily: PWM Controller; Mounting Technology: Through Hole; Code_JEDEC: MS-001*; ComponentLink1Description: Datasheet; ComponentLink1URL: http://www.ti.com/general/docs/lit/getliterature.tsp?genericPartNumber=UC3823A&fileType=pdf
footprint N16 (DIP, 16-Leads, Row Spacing 7.62mm, Pitch 2.54mm, Body 19.3x6.4mm)
pins: 1 INV (in) "Inverting input to the error amplifier", 2 NI (in) "Non-inverting input to the error amplifier", 3 EAOUT (out) "Output of the error amplifier for compensation", 4 CLK/LEB (io) "Output of the internal oscillator", 5 RT "Timing resistor connection pin for oscillator frequency programming", 6 CT "Timing capacitor connection pin for oscillator frequency programming. The timing capacitor should be connected to the device ground using minimal trace length.", 7 RAMP (in) "Non-inverting input to the PWM comparator with 1.25-V internal input offset. In voltage mode operation, this serves as the input voltage feed-forward function by using the CT ramp. In peak current mode operation, this serves (See Datasheet)", 8 SS (in) "Soft-start input pin which also doubles as the maximum duty cycle clamp.", 9 ILIM (in) "Input to the current limit comparator", 10 GND (power) "Analog ground return pin", 11 OUTA (out) "High current totem pole output A of the on-chip drive stage.", 12 PGND (power) "Ground return pin for the output driver stage", 13 VC (power) "Power supply pin for the output stage. This pin should be bypassed with a 0.1-uF monolithic ceramic low ESL capacitor with minimal trace lengths.", 14 OUTB (out) "High current totem pole output B of the on-chip drive stage.", 15 VCC (power) "Power supply pin for the device. This pin should be bypassed with a 0.1-uF monolithic ceramic low ESL capacitor with minimal trace lengths", 16 VREF (out) "5.1-V reference. For stability, the reference should be bypassed with a 0.1-uF monolithic ceramic low ESL capacitor and minimal trace length to the ground plane."

## UC3823ANG4
designator U?
High Speed PWM Controller with Current, Voltage Control, 100 % Duty Cycle, 0 to +70 degC, 16-pin PDIP (N), Green (RoHS & no Sb/Br); PartNumber: UC3823ANG4; Manufacturer: Texas Instruments; Duty Cycle(Max)(%): 100; Frequency(Max)(kHz): 1000; Rating: Catalog; Regulated Outputs(#): 1; Topology: Boost, Buck, Flyback, Forward; UVLO Thresholds On/Off(V): 16/10; DatasheetVersion: SLUS334E; PackageVersion: revE, Dec-2002; PackageReference: N16; PackageDescription: 16-Pin Plastic Dual-In-Line Package, Row Spacing 7.62 mm, Pitch 2.54 mm; Supplier 1: Digi-Key; Supplier Part Number 1: UC3823ANG4-ND; Supplier 2: Farnell; Supplier Part Number 2: 1207385; Supplier 3: Newark; Supplier Part Number 3: 24M8894; Supplier 4: Newark; Supplier Part Number 4: 54K2323; Supplier 5: Mouser; Supplier Part Number 5: 595-UC3823ANG4; Control Method: Current,Voltage; Eco-Plan: Green (RoHS & no Sb/Br); SubFamily: PWM Controller; Mounting Technology: Through Hole; Code_JEDEC: MS-001*; ComponentLink1Description: Datasheet; ComponentLink1URL: http://www.ti.com/general/docs/lit/getliterature.tsp?genericPartNumber=UC3823A&fileType=pdf
footprint N16 (DIP, 16-Leads, Row Spacing 7.62mm, Pitch 2.54mm, Body 19.3x6.4mm)
pins: 1 INV (in) "Inverting input to the error amplifier", 2 NI (in) "Non-inverting input to the error amplifier", 3 EAOUT (out) "Output of the error amplifier for compensation", 4 CLK/LEB (io) "Output of the internal oscillator", 5 RT "Timing resistor connection pin for oscillator frequency programming", 6 CT "Timing capacitor connection pin for oscillator frequency programming. The timing capacitor should be connected to the device ground using minimal trace length.", 7 RAMP (in) "Non-inverting input to the PWM comparator with 1.25-V internal input offset. In voltage mode operation, this serves as the input voltage feed-forward function by using the CT ramp. In peak current mode operation, this serves (See Datasheet)", 8 SS (in) "Soft-start input pin which also doubles as the maximum duty cycle clamp.", 9 ILIM (in) "Input to the current limit comparator", 10 GND (power) "Analog ground return pin", 11 OUTA (out) "High current totem pole output A of the on-chip drive stage.", 12 PGND (power) "Ground return pin for the output driver stage", 13 VC (power) "Power supply pin for the output stage. This pin should be bypassed with a 0.1-uF monolithic ceramic low ESL capacitor with minimal trace lengths.", 14 OUTB (out) "High current totem pole output B of the on-chip drive stage.", 15 VCC (power) "Power supply pin for the device. This pin should be bypassed with a 0.1-uF monolithic ceramic low ESL capacitor with minimal trace lengths", 16 VREF (out) "5.1-V reference. For stability, the reference should be bypassed with a 0.1-uF monolithic ceramic low ESL capacitor and minimal trace length to the ground plane."

## UC3823BDW
designator U?
High Speed PWM Controller with Current, Voltage Control, 100 % Duty Cycle, 0 to +70 degC, 16-pin SOIC (DW), Green (RoHS & no Sb/Br); PartNumber: UC3823BDW; Manufacturer: Texas Instruments; Duty Cycle(Max)(%): 100; Frequency(Max)(kHz): 1000; Rating: Catalog; Regulated Outputs(#): 1; Topology: Boost, Buck, Flyback, Forward; UVLO Thresholds On/Off(V): 9.2/8.4; DatasheetVersion: SLUS334E; PackageVersion: revG, Jan-2011; PackageReference: DW16; PackageDescription: 16-Pin Small Outline Integrated Circuit, 10.3 x 7.5 mm, Pitch 1.27 mm Pitch; Supplier 1: Digi-Key; Supplier Part Number 1: 296-2516-5-ND; Supplier 2: Newark; Supplier Part Number 2: 77C3237; Supplier 3: Mouser; Supplier Part Number 3: 595-UC3823BDW; Control Method: Current, Voltage; Eco-Plan: Green (RoHS & no Sb/Br); SubFamily: PWM Controller; Mounting Technology: Surface Mount; Code_JEDEC: MS-013-AA; ComponentLink1Description: Datasheet; ComponentLink1URL: http://www.ti.com/general/docs/lit/getliterature.tsp?genericPartNumber=UC3823B&fileType=pdf
footprint DW16_N (SOIC, 16-Leads, Body 10.3x7.5mm, Pitch 1.27mm, IPC Medium Density)
footprint DW16_L (SOIC, 16-Leads, Body 10.3x7.5mm, Pitch 1.27mm, IPC High Density)
footprint DW16_M (SOIC, 16-Leads, Body 10.3x7.5mm, Pitch 1.27mm, IPC Low Density)
pins: 1 INV (in) "Inverting input to the error amplifier", 2 NI (in) "Non-inverting input to the error amplifier", 3 EAOUT (out) "Output of the error amplifier for compensation", 4 CLK/LEB (io) "Output of the internal oscillator", 5 RT "Timing resistor connection pin for oscillator frequency programming", 6 CT "Timing capacitor connection pin for oscillator frequency programming. The timing capacitor should be connected to the device ground using minimal trace length.", 7 RAMP (in) "Non-inverting input to the PWM comparator with 1.25-V internal input offset. In voltage mode operation, this serves as the input voltage feed-forward function by using the CT ramp. In peak current mode operation, this serves (See Datasheet)", 8 SS (in) "Soft-start input pin which also doubles as the maximum duty cycle clamp.", 9 ILIM (in) "Input to the current limit comparator", 10 GND (power) "Analog ground return pin", 11 OUTA (out) "High current totem pole output A of the on-chip drive stage.", 12 PGND (power) "Ground return pin for the output driver stage", 13 VC (power) "Power supply pin for the output stage. This pin should be bypassed with a 0.1-uF monolithic ceramic low ESL capacitor with minimal trace lengths.", 14 OUTB (out) "High current totem pole output B of the on-chip drive stage.", 15 VCC (power) "Power supply pin for the device. This pin should be bypassed with a 0.1-uF monolithic ceramic low ESL capacitor with minimal trace lengths", 16 VREF (out) "5.1-V reference. For stability, the reference should be bypassed with a 0.1-uF monolithic ceramic low ESL capacitor and minimal trace length to the ground plane."

## UC3823BDWG4
designator U?
High Speed PWM Controller with Current, Voltage Control, 100 % Duty Cycle, 0 to +70 degC, 16-pin SOIC (DW), Green (RoHS & no Sb/Br); PartNumber: UC3823BDWG4; Manufacturer: Texas Instruments; Duty Cycle(Max)(%): 100; Frequency(Max)(kHz): 1000; Rating: Catalog; Regulated Outputs(#): 1; Topology: Boost, Buck, Flyback, Forward; UVLO Thresholds On/Off(V): 9.2/8.4; DatasheetVersion: SLUS334E; PackageVersion: revG, Jan-2011; PackageReference: DW16; PackageDescription: 16-Pin Small Outline Integrated Circuit, 10.3 x 7.5 mm, Pitch 1.27 mm Pitch; Supplier 1: Digi-Key; Supplier Part Number 1: UC3823BDWG4-ND; Supplier 2: Newark; Supplier Part Number 2: 70K6007; Supplier 3: Mouser; Supplier Part Number 3: 595-UC3823BDWG4; Control Method: Current, Voltage; Eco-Plan: Green (RoHS & no Sb/Br); SubFamily: PWM Controller; Mounting Technology: Surface Mount; Code_JEDEC: MS-013-AA; ComponentLink1Description: Datasheet; ComponentLink1URL: http://www.ti.com/general/docs/lit/getliterature.tsp?genericPartNumber=UC3823B&fileType=pdf
footprint DW16_N (SOIC, 16-Leads, Body 10.3x7.5mm, Pitch 1.27mm, IPC Medium Density)
footprint DW16_L (SOIC, 16-Leads, Body 10.3x7.5mm, Pitch 1.27mm, IPC High Density)
footprint DW16_M (SOIC, 16-Leads, Body 10.3x7.5mm, Pitch 1.27mm, IPC Low Density)
pins: 1 INV (in) "Inverting input to the error amplifier", 2 NI (in) "Non-inverting input to the error amplifier", 3 EAOUT (out) "Output of the error amplifier for compensation", 4 CLK/LEB (io) "Output of the internal oscillator", 5 RT "Timing resistor connection pin for oscillator frequency programming", 6 CT "Timing capacitor connection pin for oscillator frequency programming. The timing capacitor should be connected to the device ground using minimal trace length.", 7 RAMP (in) "Non-inverting input to the PWM comparator with 1.25-V internal input offset. In voltage mode operation, this serves as the input voltage feed-forward function by using the CT ramp. In peak current mode operation, this serves (See Datasheet)", 8 SS (in) "Soft-start input pin which also doubles as the maximum duty cycle clamp.", 9 ILIM (in) "Input to the current limit comparator", 10 GND (power) "Analog ground return pin", 11 OUTA (out) "High current totem pole output A of the on-chip drive stage.", 12 PGND (power) "Ground return pin for the output driver stage", 13 VC (power) "Power supply pin for the output stage. This pin should be bypassed with a 0.1-uF monolithic ceramic low ESL capacitor with minimal trace lengths.", 14 OUTB (out) "High current totem pole output B of the on-chip drive stage.", 15 VCC (power) "Power supply pin for the device. This pin should be bypassed with a 0.1-uF monolithic ceramic low ESL capacitor with minimal trace lengths", 16 VREF (out) "5.1-V reference. For stability, the reference should be bypassed with a 0.1-uF monolithic ceramic low ESL capacitor and minimal trace length to the ground plane."

## UC3823BDWTR
designator U?
High Speed PWM Controller with Current, Voltage Control, 100 % Duty Cycle, 0 to +70 degC, 16-pin SOIC (DW), Green (RoHS & no Sb/Br); PartNumber: UC3823BDWTR; Manufacturer: Texas Instruments; Duty Cycle(Max)(%): 100; Frequency(Max)(kHz): 1000; Rating: Catalog; Regulated Outputs(#): 1; Topology: Boost, Buck, Flyback, Forward; UVLO Thresholds On/Off(V): 9.2/8.4; DatasheetVersion: SLUS334E; PackageVersion: revG, Jan-2011; PackageReference: DW16; PackageDescription: 16-Pin Small Outline Integrated Circuit, 10.3 x 7.5 mm, Pitch 1.27 mm Pitch; Supplier 1: Digi-Key; Supplier Part Number 1: UC3823BDWTR-ND; Supplier 2: Newark; Supplier Part Number 2: 77C3238; Supplier 3: Mouser; Supplier Part Number 3: 595-UC3823BDWTR; Control Method: Current, Voltage; Eco-Plan: Green (RoHS & no Sb/Br); SubFamily: PWM Controller; Mounting Technology: Surface Mount; Code_JEDEC: MS-013-AA; ComponentLink1Description: Datasheet; ComponentLink1URL: http://www.ti.com/general/docs/lit/getliterature.tsp?genericPartNumber=UC3823B&fileType=pdf
footprint DW16_N (SOIC, 16-Leads, Body 10.3x7.5mm, Pitch 1.27mm, IPC Medium Density)
footprint DW16_L (SOIC, 16-Leads, Body 10.3x7.5mm, Pitch 1.27mm, IPC High Density)
footprint DW16_M (SOIC, 16-Leads, Body 10.3x7.5mm, Pitch 1.27mm, IPC Low Density)
pins: 1 INV (in) "Inverting input to the error amplifier", 2 NI (in) "Non-inverting input to the error amplifier", 3 EAOUT (out) "Output of the error amplifier for compensation", 4 CLK/LEB (io) "Output of the internal oscillator", 5 RT "Timing resistor connection pin for oscillator frequency programming", 6 CT "Timing capacitor connection pin for oscillator frequency programming. The timing capacitor should be connected to the device ground using minimal trace length.", 7 RAMP (in) "Non-inverting input to the PWM comparator with 1.25-V internal input offset. In voltage mode operation, this serves as the input voltage feed-forward function by using the CT ramp. In peak current mode operation, this serves (See Datasheet)", 8 SS (in) "Soft-start input pin which also doubles as the maximum duty cycle clamp.", 9 ILIM (in) "Input to the current limit comparator", 10 GND (power) "Analog ground return pin", 11 OUTA (out) "High current totem pole output A of the on-chip drive stage.", 12 PGND (power) "Ground return pin for the output driver stage", 13 VC (power) "Power supply pin for the output stage. This pin should be bypassed with a 0.1-uF monolithic ceramic low ESL capacitor with minimal trace lengths.", 14 OUTB (out) "High current totem pole output B of the on-chip drive stage.", 15 VCC (power) "Power supply pin for the device. This pin should be bypassed with a 0.1-uF monolithic ceramic low ESL capacitor with minimal trace lengths", 16 VREF (out) "5.1-V reference. For stability, the reference should be bypassed with a 0.1-uF monolithic ceramic low ESL capacitor and minimal trace length to the ground plane."

## UC3823BDWTRG4
designator U?
High Speed PWM Controller with Current, Voltage Control, 100 % Duty Cycle, 0 to +70 degC, 16-pin SOIC (DW), Green (RoHS & no Sb/Br); PartNumber: UC3823BDWTRG4; Manufacturer: Texas Instruments; Duty Cycle(Max)(%): 100; Frequency(Max)(kHz): 1000; Rating: Catalog; Regulated Outputs(#): 1; Topology: Boost, Buck, Flyback, Forward; UVLO Thresholds On/Off(V): 9.2/8.4; DatasheetVersion: SLUS334E; PackageVersion: revG, Jan-2011; PackageReference: DW16; PackageDescription: 16-Pin Small Outline Integrated Circuit, 10.3 x 7.5 mm, Pitch 1.27 mm Pitch; Supplier 1: Digi-Key; Supplier Part Number 1: UC3823BDWTRG4-ND; Supplier 2: Newark; Supplier Part Number 2: 63K6730; Supplier 3: Mouser; Supplier Part Number 3: 595-UC3823BDWTRG4; Control Method: Current, Voltage; Eco-Plan: Green (RoHS & no Sb/Br); SubFamily: PWM Controller; Mounting Technology: Surface Mount; Code_JEDEC: MS-013-AA; ComponentLink1Description: Datasheet; ComponentLink1URL: http://www.ti.com/general/docs/lit/getliterature.tsp?genericPartNumber=UC3823B&fileType=pdf
footprint DW16_N (SOIC, 16-Leads, Body 10.3x7.5mm, Pitch 1.27mm, IPC Medium Density)
footprint DW16_L (SOIC, 16-Leads, Body 10.3x7.5mm, Pitch 1.27mm, IPC High Density)
footprint DW16_M (SOIC, 16-Leads, Body 10.3x7.5mm, Pitch 1.27mm, IPC Low Density)
pins: 1 INV (in) "Inverting input to the error amplifier", 2 NI (in) "Non-inverting input to the error amplifier", 3 EAOUT (out) "Output of the error amplifier for compensation", 4 CLK/LEB (io) "Output of the internal oscillator", 5 RT "Timing resistor connection pin for oscillator frequency programming", 6 CT "Timing capacitor connection pin for oscillator frequency programming. The timing capacitor should be connected to the device ground using minimal trace length.", 7 RAMP (in) "Non-inverting input to the PWM comparator with 1.25-V internal input offset. In voltage mode operation, this serves as the input voltage feed-forward function by using the CT ramp. In peak current mode operation, this serves (See Datasheet)", 8 SS (in) "Soft-start input pin which also doubles as the maximum duty cycle clamp.", 9 ILIM (in) "Input to the current limit comparator", 10 GND (power) "Analog ground return pin", 11 OUTA (out) "High current totem pole output A of the on-chip drive stage.", 12 PGND (power) "Ground return pin for the output driver stage", 13 VC (power) "Power supply pin for the output stage. This pin should be bypassed with a 0.1-uF monolithic ceramic low ESL capacitor with minimal trace lengths.", 14 OUTB (out) "High current totem pole output B of the on-chip drive stage.", 15 VCC (power) "Power supply pin for the device. This pin should be bypassed with a 0.1-uF monolithic ceramic low ESL capacitor with minimal trace lengths", 16 VREF (out) "5.1-V reference. For stability, the reference should be bypassed with a 0.1-uF monolithic ceramic low ESL capacitor and minimal trace length to the ground plane."

## UC3823BN
designator U?
High Speed PWM Controller with Current, Voltage Control, 100 % Duty Cycle, 0 to +70 degC, 16-pin PDIP (N), Green (RoHS & no Sb/Br); PartNumber: UC3823BN; Manufacturer: Texas Instruments; Duty Cycle(Max)(%): 100; Frequency(Max)(kHz): 1000; Rating: Catalog; Regulated Outputs(#): 1; Topology: Boost, Buck, Flyback, Forward; UVLO Thresholds On/Off(V): 9.2/8.4; DatasheetVersion: SLUS334E; PackageVersion: revE, Dec-2002; PackageReference: N16; PackageDescription: 16-Pin Plastic Dual-In-Line Package, Row Spacing 7.62 mm, Pitch 2.54 mm; Supplier 1: Digi-Key; Supplier Part Number 1: 296-11262-5-ND; Supplier 2: Newark; Supplier Part Number 2: 77C3239; Supplier 3: Mouser; Supplier Part Number 3: 595-UC3823BN; Control Method: Current, Voltage; Eco-Plan: Green (RoHS & no Sb/Br); SubFamily: PWM Controller; Mounting Technology: Through Hole; Code_JEDEC: MS-001*; ComponentLink1Description: Datasheet; ComponentLink1URL: http://www.ti.com/general/docs/lit/getliterature.tsp?genericPartNumber=UC3823B&fileType=pdf
footprint N16 (DIP, 16-Leads, Row Spacing 7.62mm, Pitch 2.54mm, Body 19.3x6.4mm)
pins: 1 INV (in) "Inverting input to the error amplifier", 2 NI (in) "Non-inverting input to the error amplifier", 3 EAOUT (out) "Output of the error amplifier for compensation", 4 CLK/LEB (io) "Output of the internal oscillator", 5 RT "Timing resistor connection pin for oscillator frequency programming", 6 CT "Timing capacitor connection pin for oscillator frequency programming. The timing capacitor should be connected to the device ground using minimal trace length.", 7 RAMP (in) "Non-inverting input to the PWM comparator with 1.25-V internal input offset. In voltage mode operation, this serves as the input voltage feed-forward function by using the CT ramp. In peak current mode operation, this serves (See Datasheet)", 8 SS (in) "Soft-start input pin which also doubles as the maximum duty cycle clamp.", 9 ILIM (in) "Input to the current limit comparator", 10 GND (power) "Analog ground return pin", 11 OUTA (out) "High current totem pole output A of the on-chip drive stage.", 12 PGND (power) "Ground return pin for the output driver stage", 13 VC (power) "Power supply pin for the output stage. This pin should be bypassed with a 0.1-uF monolithic ceramic low ESL capacitor with minimal trace lengths.", 14 OUTB (out) "High current totem pole output B of the on-chip drive stage.", 15 VCC (power) "Power supply pin for the device. This pin should be bypassed with a 0.1-uF monolithic ceramic low ESL capacitor with minimal trace lengths", 16 VREF (out) "5.1-V reference. For stability, the reference should be bypassed with a 0.1-uF monolithic ceramic low ESL capacitor and minimal trace length to the ground plane."

## UC3823BNG4
designator U?
High Speed PWM Controller with Current, Voltage Control, 100 % Duty Cycle, 0 to +70 degC, 16-pin PDIP (N), Green (RoHS & no Sb/Br); PartNumber: UC3823BNG4; Manufacturer: Texas Instruments; Duty Cycle(Max)(%): 100; Frequency(Max)(kHz): 1000; Rating: Catalog; Regulated Outputs(#): 1; Topology: Boost, Buck, Flyback, Forward; UVLO Thresholds On/Off(V): 9.2/8.4; DatasheetVersion: SLUS334E; PackageVersion: revE, Dec-2002; PackageReference: N16; PackageDescription: 16-Pin Plastic Dual-In-Line Package, Row Spacing 7.62 mm, Pitch 2.54 mm; Supplier 1: Digi-Key; Supplier Part Number 1: UC3823BNG4-ND; Supplier 2: Newark; Supplier Part Number 2: 80K3539; Supplier 3: Mouser; Supplier Part Number 3: 595-UC3823BNG4; Control Method: Current,Voltage; Eco-Plan: Green (RoHS & no Sb/Br); SubFamily: PWM Controller; Mounting Technology: Through Hole; Code_JEDEC: MS-001*; ComponentLink1Description: Datasheet; ComponentLink1URL: http://www.ti.com/general/docs/lit/getliterature.tsp?genericPartNumber=UC3823B&fileType=pdf
footprint N16 (DIP, 16-Leads, Row Spacing 7.62mm, Pitch 2.54mm, Body 19.3x6.4mm)
pins: 1 INV (in) "Inverting input to the error amplifier", 2 NI (in) "Non-inverting input to the error amplifier", 3 EAOUT (out) "Output of the error amplifier for compensation", 4 CLK/LEB (io) "Output of the internal oscillator", 5 RT "Timing resistor connection pin for oscillator frequency programming", 6 CT "Timing capacitor connection pin for oscillator frequency programming. The timing capacitor should be connected to the device ground using minimal trace length.", 7 RAMP (in) "Non-inverting input to the PWM comparator with 1.25-V internal input offset. In voltage mode operation, this serves as the input voltage feed-forward function by using the CT ramp. In peak current mode operation, this serves (See Datasheet)", 8 SS (in) "Soft-start input pin which also doubles as the maximum duty cycle clamp.", 9 ILIM (in) "Input to the current limit comparator", 10 GND (power) "Analog ground return pin", 11 OUTA (out) "High current totem pole output A of the on-chip drive stage.", 12 PGND (power) "Ground return pin for the output driver stage", 13 VC (power) "Power supply pin for the output stage. This pin should be bypassed with a 0.1-uF monolithic ceramic low ESL capacitor with minimal trace lengths.", 14 OUTB (out) "High current totem pole output B of the on-chip drive stage.", 15 VCC (power) "Power supply pin for the device. This pin should be bypassed with a 0.1-uF monolithic ceramic low ESL capacitor with minimal trace lengths", 16 VREF (out) "5.1-V reference. For stability, the reference should be bypassed with a 0.1-uF monolithic ceramic low ESL capacitor and minimal trace length to the ground plane."

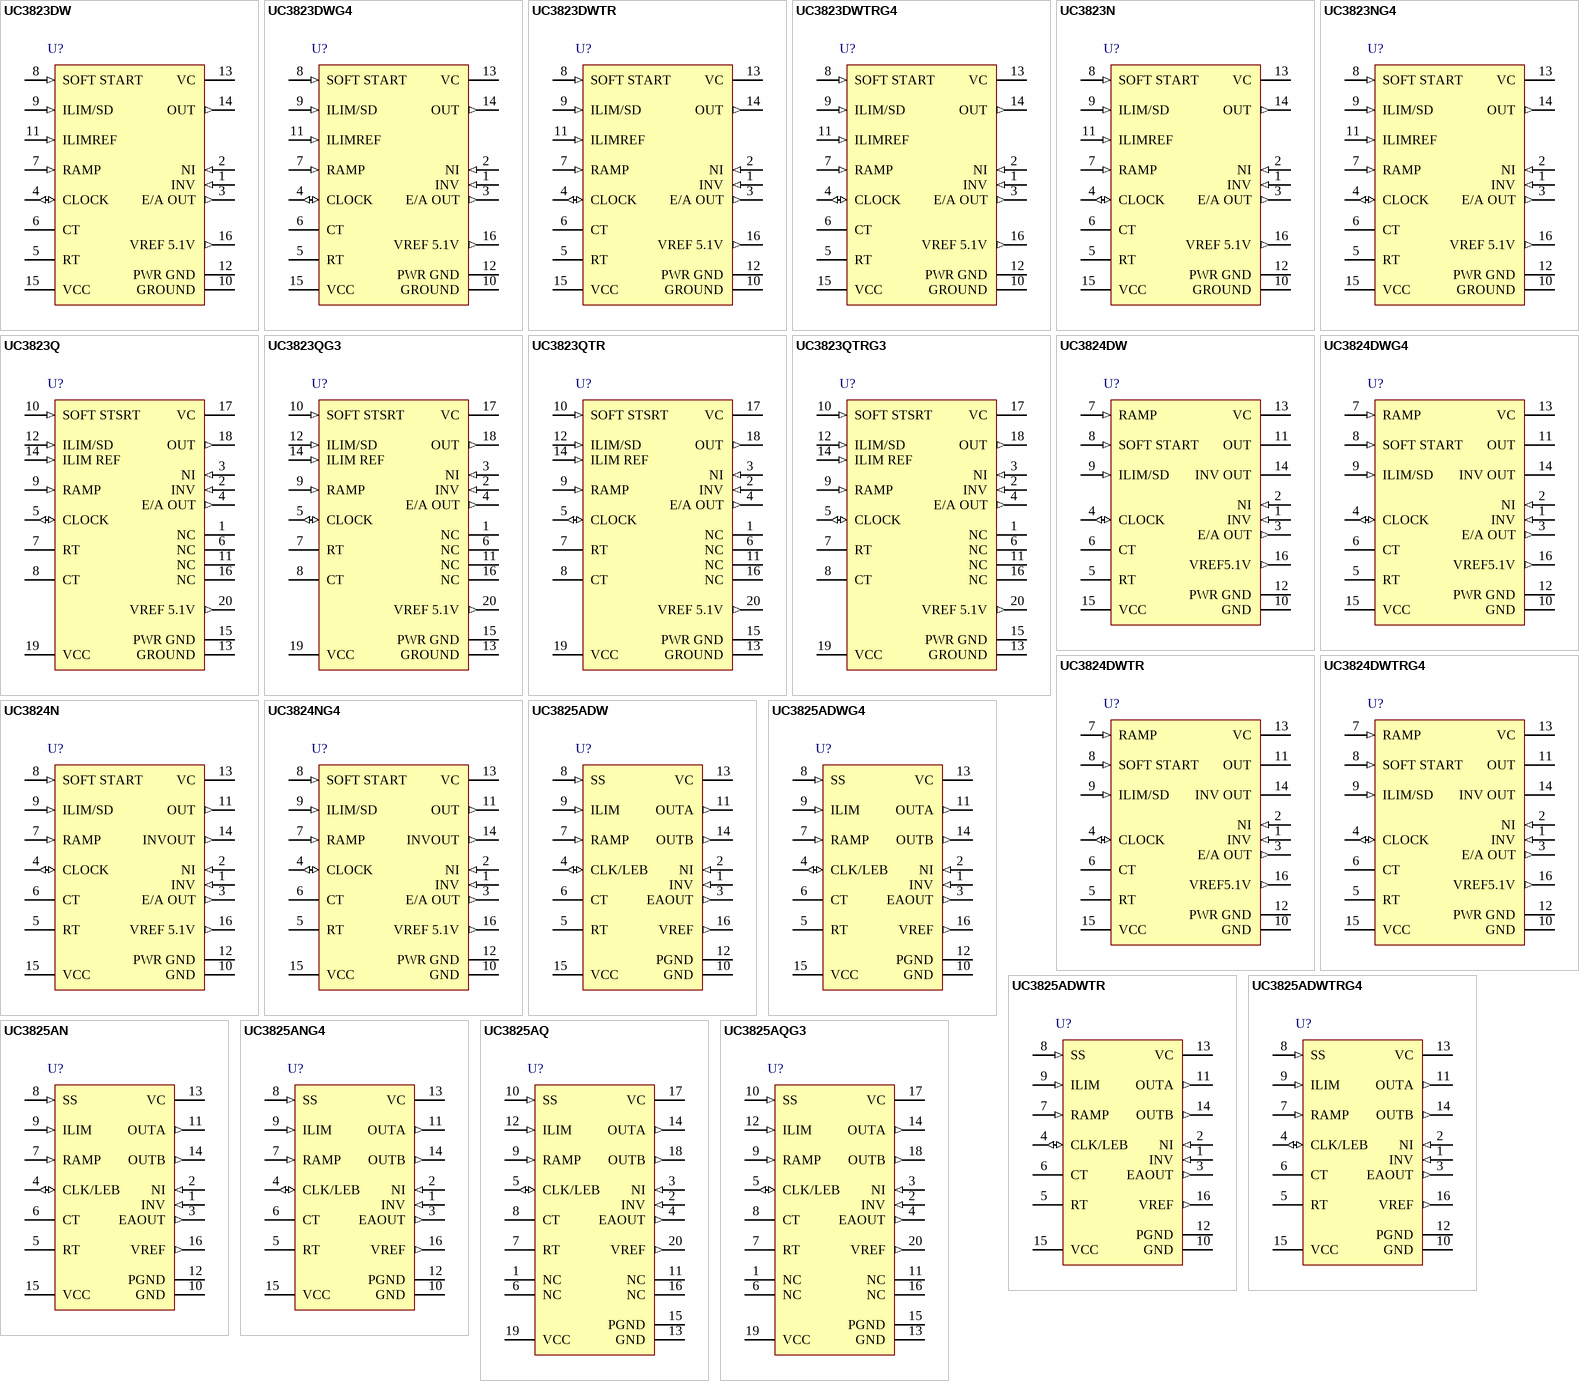
[diagram p29: symbols UC3823DW to UC3825AQG3]